# Altium integrated library Capacitors - Aluminum - Electrolytic SMT.IntLib: 1988 symbols (part 33 of 50)
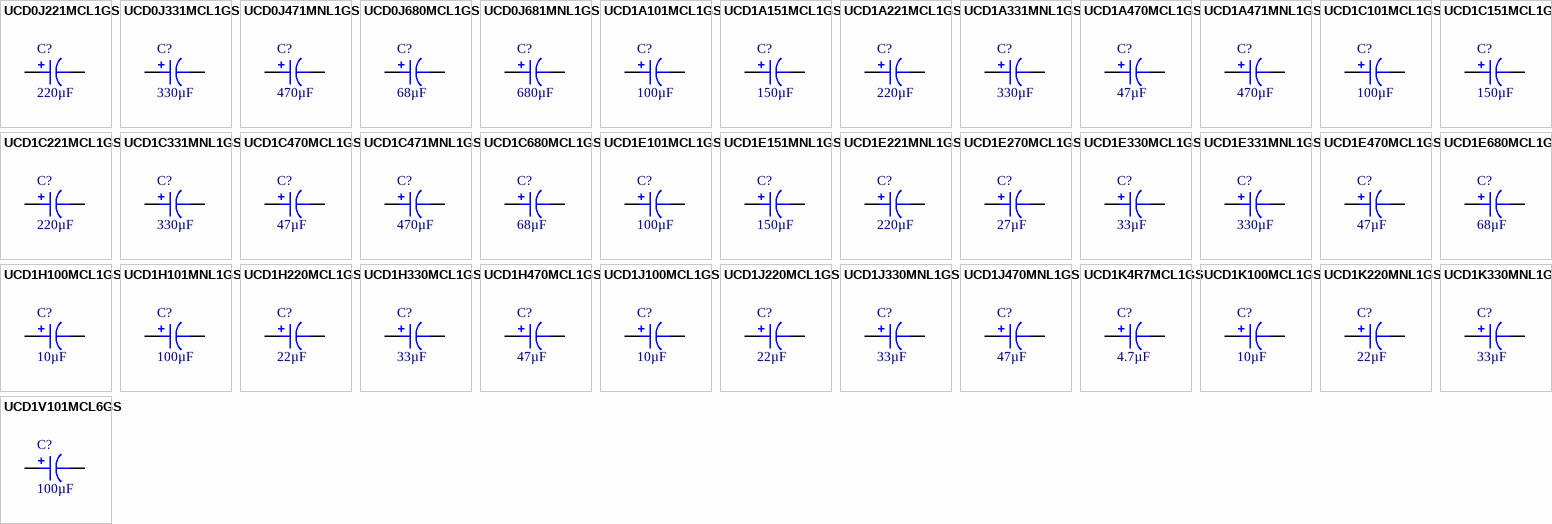
[diagram p80: symbols UCD0J221MCL1GS to UCD1V101MCL6GS]

## UCD1E680MCL1GS
designator C?, comment 68µF
CAP ALUM 68UF 20% 25V SMD; Part Number: UCD1E680MCL1GS; Manufacturer: Nichicon; Impedance: 360 mOhms; Lifetime @ Temp.: 2000 Hrs @ 105°C; Polarization: Polar; Ripple Current @ High Frequency: 240mA @ 100kHz; Ripple Current @ Low Frequency: 120mA @ 120Hz; Surface Mount Land Size: 0.260" L x 0.260" W (6.60mm x 6.60mm); Applications: Automotive; Capacitance: 68µF; ComponentLink1Description: Datasheet; ComponentLink1URL: http://nichicon-us.com/english/products/pdfs/e-ucd.pdf; ComponentLink2Description: DigiKey Link; ComponentLink2URL: http://digikey.com/product-detail/en/nichicon/UCD1E680MCL1GS/493-6387-1-ND/3438901; Device Package: Radial, Can - SMD; Height - Seated (Max): 0.240" (6.10mm); LastUpdated: 9/2/2020 1:25:27 AM; Lifecycle Status: Active; Minimum Order: 1; Mounting Type: Surface Mount; Operating Temperature: -55°C ~ 105°C; Package / Case: Radial, Can - SMD; Packaging: TapeAndReel; PartId: 8108; Part Status: Active; Price: 0.12; Ratings: AEC-Q200; Series: UCD; Size / Dimension: 0.248" Dia (6.30mm); Supplier 1: DigiKey; Supplier Part Number 1: 493-6387-1-ND; Tolerance: ±20%; Value: 68µF; Voltage - Rated: 25V
footprint CAP ALSMD 6.6MM H6.1MM
pins: 1, 2

## UCD1H100MCL1GS
designator C?, comment 10µF
CAP ALUM 10UF 20% 50V SMD; Part Number: UCD1H100MCL1GS; Manufacturer: Nichicon; Impedance: 860 mOhms; Lifetime @ Temp.: 2000 Hrs @ 105°C; Polarization: Polar; Ripple Current @ High Frequency: 170mA @ 100kHz; Ripple Current @ Low Frequency: 85mA @ 120Hz; Surface Mount Land Size: 0.260" L x 0.260" W (6.60mm x 6.60mm); Applications: Automotive; Capacitance: 10µF; ComponentLink1Description: Datasheet; ComponentLink1URL: http://nichicon-us.com/english/products/pdfs/e-ucd.pdf; ComponentLink2Description: DigiKey Link; ComponentLink2URL: http://digikey.com/product-detail/en/nichicon/UCD1H100MCL1GS/493-6177-1-ND/3438690; Device Package: Radial, Can - SMD; Height - Seated (Max): 0.240" (6.10mm); LastUpdated: 9/2/2020 1:25:27 AM; Lifecycle Status: Active; Minimum Order: 1; Mounting Type: Surface Mount; Operating Temperature: -55°C ~ 105°C; Package / Case: Radial, Can - SMD; Packaging: TapeAndReel; PartId: 8083; Part Status: Active; Price: 0.11; Ratings: AEC-Q200; Series: UCD; Size / Dimension: 0.248" Dia (6.30mm); Supplier 1: DigiKey; Supplier Part Number 1: 493-6177-1-ND; Tolerance: ±20%; Value: 10µF; Voltage - Rated: 50V
footprint CAP ALSMD 6.6MM H6.1MM
pins: 1, 2

## UCD1H101MNL1GS
designator C?, comment 100µF
CAP ALUM 100UF 20% 50V SMD; Part Number: UCD1H101MNL1GS; Manufacturer: Nichicon; Impedance: 320 mOhms; Lifetime @ Temp.: 5000 Hrs @ 105°C; Polarization: Polar; Ripple Current @ High Frequency: 350mA @ 100kHz; Ripple Current @ Low Frequency: 175mA @ 120Hz; Surface Mount Land Size: 0.327" L x 0.327" W (8.30mm x 8.30mm); Applications: Automotive; Capacitance: 100µF; ComponentLink1Description: Datasheet; ComponentLink1URL: http://nichicon-us.com/english/products/pdfs/e-ucd.pdf; ComponentLink2Description: DigiKey Link; ComponentLink2URL: http://digikey.com/product-detail/en/nichicon/UCD1H101MNL1GS/493-6388-1-ND/3438902; Device Package: Radial, Can - SMD; Height - Seated (Max): 0.413" (10.50mm); LastUpdated: 9/2/2020 1:25:16 AM; Lifecycle Status: Active; Minimum Order: 1; Mounting Type: Surface Mount; Operating Temperature: -55°C ~ 105°C; Package / Case: Radial, Can - SMD; Packaging: TapeAndReel; PartId: 7489; Part Status: Active; Price: 0.26; Ratings: AEC-Q200; Series: UCD; Size / Dimension: 0.315" Dia (8.00mm); Supplier 1: DigiKey; Supplier Part Number 1: 493-6388-1-ND; Tolerance: ±20%; Value: 100µF; Voltage - Rated: 50V
footprint CAP ALSMD 8.3MM H10.5MM
pins: 1, 2

## UCD1H220MCL1GS
designator C?, comment 22µF
CAP ALUM 22UF 20% 50V SMD; Part Number: UCD1H220MCL1GS; Manufacturer: Nichicon; Impedance: 860 mOhms; Lifetime @ Temp.: 5000 Hrs @ 105°C; Polarization: Polar; Ripple Current @ High Frequency: 170mA @ 100kHz; Ripple Current @ Low Frequency: 85mA @ 120Hz; Surface Mount Land Size: 0.260" L x 0.260" W (6.60mm x 6.60mm); Applications: Automotive; Capacitance: 22µF; ComponentLink1Description: Datasheet; ComponentLink1URL: http://nichicon-us.com/english/products/pdfs/e-ucd.pdf; ComponentLink2Description: DigiKey Link; ComponentLink2URL: http://digikey.com/product-detail/en/nichicon/UCD1H220MCL1GS/493-6180-1-ND/3438693; Device Package: Radial, Can - SMD; Height - Seated (Max): 0.240" (6.10mm); LastUpdated: 9/2/2020 1:25:26 AM; Lifecycle Status: Active; Minimum Order: 1; Mounting Type: Surface Mount; Operating Temperature: -55°C ~ 105°C; Package / Case: Radial, Can - SMD; Packaging: TapeAndReel; PartId: 8171; Part Status: Active; Price: 0.12; Ratings: AEC-Q200; Series: UCD; Size / Dimension: 0.248" Dia (6.30mm); Supplier 1: DigiKey; Supplier Part Number 1: 493-6180-1-ND; Tolerance: ±20%; Value: 22µF; Voltage - Rated: 50V
footprint CAP ALSMD 6.6MM H6.1MM
pins: 1, 2

## UCD1H330MCL1GS
designator C?, comment 33µF
CAP ALUM 33UF 20% 50V SMD; Part Number: UCD1H330MCL1GS; Manufacturer: Nichicon; Impedance: 660 mOhms; Lifetime @ Temp.: 2000 Hrs @ 105°C; Polarization: Polar; Ripple Current @ High Frequency: 195mA @ 100kHz; Ripple Current @ Low Frequency: 97.5mA @ 120Hz; Surface Mount Land Size: 0.260" L x 0.260" W (6.60mm x 6.60mm); Applications: Automotive; Capacitance: 33µF; ComponentLink1Description: Datasheet; ComponentLink1URL: http://nichicon-us.com/english/products/pdfs/e-ucd.pdf; ComponentLink2Description: DigiKey Link; ComponentLink2URL: http://digikey.com/product-detail/en/nichicon/UCD1H330MCL1GS/493-6181-1-ND/3438694; Device Package: Radial, Can - SMD; Height - Seated (Max): 0.315" (8.00mm); LastUpdated: 9/2/2020 1:25:38 AM; Lifecycle Status: Active; Minimum Order: 1; Mounting Type: Surface Mount; Operating Temperature: -55°C ~ 105°C; Package / Case: Radial, Can - SMD; Packaging: TapeAndReel; PartId: 8396; Part Status: Active; Price: 0.14; Ratings: AEC-Q200; Series: UCD; Size / Dimension: 0.248" Dia (6.30mm); Supplier 1: DigiKey; Supplier Part Number 1: 493-6181-1-ND; Tolerance: ±20%; Value: 33µF; Voltage - Rated: 50V
footprint CAP ALSMD 6.6MM H8.0MM
pins: 1, 2

## UCD1H470MCL1GS
designator C?, comment 47µF
CAP ALUM 47UF 20% 50V SMD; Part Number: UCD1H470MCL1GS; Manufacturer: Nichicon; Impedance: 630 mOhms; Lifetime @ Temp.: 2000 Hrs @ 105°C; Polarization: Polar; Ripple Current @ High Frequency: 195mA @ 100kHz; Ripple Current @ Low Frequency: 97.5mA @ 120Hz; Surface Mount Land Size: 0.260" L x 0.260" W (6.60mm x 6.60mm); Applications: Automotive; Capacitance: 47µF; ComponentLink1Description: Datasheet; ComponentLink1URL: http://nichicon-us.com/english/products/pdfs/e-ucd.pdf; ComponentLink2Description: DigiKey Link; ComponentLink2URL: http://digikey.com/product-detail/en/nichicon/UCD1H470MCL1GS/493-6183-1-ND/3438696; Device Package: Radial, Can - SMD; Height - Seated (Max): 0.315" (8.00mm); LastUpdated: 9/2/2020 1:25:38 AM; Lifecycle Status: Active; Minimum Order: 1; Mounting Type: Surface Mount; Operating Temperature: -55°C ~ 105°C; Package / Case: Radial, Can - SMD; Packaging: TapeAndReel; PartId: 8347; Part Status: Active; Price: 0.12; Ratings: AEC-Q200; Series: UCD; Size / Dimension: 0.248" Dia (6.30mm); Supplier 1: DigiKey; Supplier Part Number 1: 493-6183-1-ND; Tolerance: ±20%; Value: 47µF; Voltage - Rated: 50V
footprint CAP ALSMD 6.6MM H8.0MM
pins: 1, 2

## UCD1J100MCL1GS
designator C?, comment 10µF
CAP ALUM 10UF 20% 63V SMD; Part Number: UCD1J100MCL1GS; Manufacturer: Nichicon; Impedance: 1.5 Ohms; Lifetime @ Temp.: 2000 Hrs @ 105°C; Polarization: Polar; Ripple Current @ High Frequency: 80mA @ 100kHz; Ripple Current @ Low Frequency: 40mA @ 120Hz; Surface Mount Land Size: 0.260" L x 0.260" W (6.60mm x 6.60mm); Applications: Automotive; Capacitance: 10µF; ComponentLink1Description: Datasheet; ComponentLink1URL: http://nichicon-us.com/english/products/pdfs/e-ucd.pdf; ComponentLink2Description: DigiKey Link; ComponentLink2URL: http://digikey.com/product-detail/en/nichicon/UCD1J100MCL1GS/493-6395-1-ND/3438909; Device Package: Radial, Can - SMD; Height - Seated (Max): 0.240" (6.10mm); LastUpdated: 9/2/2020 1:25:26 AM; Lifecycle Status: Active; Minimum Order: 1; Mounting Type: Surface Mount; Operating Temperature: -55°C ~ 105°C; Package / Case: Radial, Can - SMD; Packaging: TapeAndReel; PartId: 8177; Part Status: Active; Price: 0.13; Ratings: AEC-Q200; Series: UCD; Size / Dimension: 0.248" Dia (6.30mm); Supplier 1: DigiKey; Supplier Part Number 1: 493-6395-1-ND; Tolerance: ±20%; Value: 10µF; Voltage - Rated: 63V
footprint CAP ALSMD 6.6MM H6.1MM
pins: 1, 2

## UCD1J220MCL1GS
designator C?, comment 22µF
CAP ALUM 22UF 20% 63V SMD; Part Number: UCD1J220MCL1GS; Manufacturer: Nichicon; Impedance: 1.2 Ohms; Lifetime @ Temp.: 2000 Hrs @ 105°C; Polarization: Polar; Ripple Current @ High Frequency: 120mA @ 100kHz; Ripple Current @ Low Frequency: 60mA @ 120Hz; Surface Mount Land Size: 0.260" L x 0.260" W (6.60mm x 6.60mm); Applications: Automotive; Capacitance: 22µF; ComponentLink1Description: Datasheet; ComponentLink1URL: http://nichicon-us.com/english/products/pdfs/e-ucd.pdf; ComponentLink2Description: DigiKey Link; ComponentLink2URL: http://digikey.com/product-detail/en/nichicon/UCD1J220MCL1GS/493-6397-1-ND/3438911; Device Package: Radial, Can - SMD; Height - Seated (Max): 0.315" (8.00mm); LastUpdated: 9/2/2020 1:25:37 AM; Lifecycle Status: Active; Minimum Order: 1; Mounting Type: Surface Mount; Operating Temperature: -55°C ~ 105°C; Package / Case: Radial, Can - SMD; Packaging: TapeAndReel; PartId: 8508; Part Status: Active; Price: 0.15; Ratings: AEC-Q200; Series: UCD; Size / Dimension: 0.248" Dia (6.30mm); Supplier 1: DigiKey; Supplier Part Number 1: 493-6397-1-ND; Tolerance: ±20%; Value: 22µF; Voltage - Rated: 63V
footprint CAP ALSMD 6.6MM H8.0MM
pins: 1, 2

## UCD1J330MNL1GS
designator C?, comment 33µF
CAP ALUM 33UF 20% 63V SMD; Part Number: UCD1J330MNL1GS; Manufacturer: Nichicon; Impedance: 650 mOhms; Lifetime @ Temp.: 2000 Hrs @ 105°C; Polarization: Polar; Ripple Current @ High Frequency: 250mA @ 100kHz; Ripple Current @ Low Frequency: 125mA @ 120Hz; Surface Mount Land Size: 0.327" L x 0.327" W (8.30mm x 8.30mm); Applications: Automotive; Capacitance: 33µF; ComponentLink1Description: Datasheet; ComponentLink1URL: http://nichicon-us.com/english/products/pdfs/e-ucd.pdf; ComponentLink2Description: DigiKey Link; ComponentLink2URL: http://digikey.com/product-detail/en/nichicon/UCD1J330MNL1GS/493-6400-1-ND/3438914; Device Package: Radial, Can - SMD; Height - Seated (Max): 0.413" (10.50mm); LastUpdated: 9/2/2020 1:25:14 AM; Lifecycle Status: Active; Minimum Order: 1; Mounting Type: Surface Mount; Operating Temperature: -55°C ~ 105°C; Package / Case: Radial, Can - SMD; Packaging: TapeAndReel; PartId: 7685; Part Status: Active; Price: 0.23; Ratings: AEC-Q200; Series: UCD; Size / Dimension: 0.315" Dia (8.00mm); Supplier 1: DigiKey; Supplier Part Number 1: 493-6400-1-ND; Tolerance: ±20%; Value: 33µF; Voltage - Rated: 63V
footprint CAP ALSMD 8.3MM H10.5MM
pins: 1, 2

## UCD1J470MNL1GS
designator C?, comment 47µF
CAP ALUM 47UF 20% 63V SMD; Part Number: UCD1J470MNL1GS; Manufacturer: Nichicon; Impedance: 650 mOhms; Lifetime @ Temp.: 2000 Hrs @ 105°C; Polarization: Polar; Ripple Current @ High Frequency: 250mA @ 100kHz; Ripple Current @ Low Frequency: 125mA @ 120Hz; Surface Mount Land Size: 0.327" L x 0.327" W (8.30mm x 8.30mm); Applications: Automotive; Capacitance: 47µF; ComponentLink1Description: Datasheet; ComponentLink1URL: http://nichicon-us.com/english/products/pdfs/e-ucd.pdf; ComponentLink2Description: DigiKey Link; ComponentLink2URL: http://digikey.com/product-detail/en/nichicon/UCD1J470MNL1GS/493-6401-1-ND/3438915; Device Package: Radial, Can - SMD; Height - Seated (Max): 0.413" (10.50mm); LastUpdated: 9/2/2020 1:25:15 AM; Lifecycle Status: Active; Minimum Order: 1; Mounting Type: Surface Mount; Operating Temperature: -55°C ~ 105°C; Package / Case: Radial, Can - SMD; Packaging: TapeAndReel; PartId: 7613; Part Status: Active; Price: 0.26; Ratings: AEC-Q200; Series: UCD; Size / Dimension: 0.315" Dia (8.00mm); Supplier 1: DigiKey; Supplier Part Number 1: 493-6401-1-ND; Tolerance: ±20%; Value: 47µF; Voltage - Rated: 63V
footprint CAP ALSMD 8.3MM H10.5MM
pins: 1, 2

## UCD1K4R7MCL1GS
designator C?, comment 4.7µF
CAP ALUM 4.7UF 20% 80V SMD; Part Number: UCD1K4R7MCL1GS; Manufacturer: Nichicon; Impedance: 3 Ohms; Lifetime @ Temp.: 2000 Hrs @ 105°C; Polarization: Polar; Ripple Current @ High Frequency: 40mA @ 100kHz; Ripple Current @ Low Frequency: 20mA @ 120Hz; Surface Mount Land Size: 0.260" L x 0.260" W (6.60mm x 6.60mm); Applications: Automotive; Capacitance: 4.7µF; ComponentLink1Description: Datasheet; ComponentLink1URL: http://nichicon-us.com/english/products/pdfs/e-ucd.pdf; ComponentLink2Description: DigiKey Link; ComponentLink2URL: http://digikey.com/product-detail/en/nichicon/UCD1K4R7MCL1GS/493-6416-1-ND/3438930; Device Package: Radial, Can - SMD; Height - Seated (Max): 0.240" (6.10mm); LastUpdated: 9/2/2020 1:25:27 AM; Lifecycle Status: Active; Minimum Order: 1; Mounting Type: Surface Mount; Operating Temperature: -55°C ~ 105°C; Package / Case: Radial, Can - SMD; Packaging: TapeAndReel; PartId: 8113; Part Status: Active; Price: 0.12; Ratings: AEC-Q200; Series: UCD; Size / Dimension: 0.248" Dia (6.30mm); Supplier 1: DigiKey; Supplier Part Number 1: 493-6416-1-ND; Tolerance: ±20%; Value: 4.7µF; Voltage - Rated: 80V
footprint CAP ALSMD 6.6MM H6.1MM
pins: 1, 2

## UCD1K100MCL1GS
designator C?, comment 10µF
CAP ALUM 10UF 20% 80V SMD; Part Number: UCD1K100MCL1GS; Manufacturer: Nichicon; Impedance: 2.4 Ohms; Lifetime @ Temp.: 2000 Hrs @ 105°C; Polarization: Polar; Ripple Current @ High Frequency: 60mA @ 100kHz; Ripple Current @ Low Frequency: 30mA @ 120Hz; Surface Mount Land Size: 0.260" L x 0.260" W (6.60mm x 6.60mm); Applications: Automotive; Capacitance: 10µF; ComponentLink1Description: Datasheet; ComponentLink1URL: http://nichicon-us.com/english/products/pdfs/e-ucd.pdf; ComponentLink2Description: DigiKey Link; ComponentLink2URL: http://digikey.com/product-detail/en/nichicon/UCD1K100MCL1GS/493-6406-1-ND/3438920; Device Package: Radial, Can - SMD; Height - Seated (Max): 0.315" (8.00mm); LastUpdated: 9/2/2020 1:25:37 AM; Lifecycle Status: Active; Minimum Order: 1; Mounting Type: Surface Mount; Operating Temperature: -55°C ~ 105°C; Package / Case: Radial, Can - SMD; Packaging: TapeAndReel; PartId: 8507; Part Status: Active; Price: 0.15; Ratings: AEC-Q200; Series: UCD; Size / Dimension: 0.248" Dia (6.30mm); Supplier 1: DigiKey; Supplier Part Number 1: 493-6406-1-ND; Tolerance: ±20%; Value: 10µF; Voltage - Rated: 80V
footprint CAP ALSMD 6.6MM H8.0MM
pins: 1, 2

## UCD1K220MNL1GS
designator C?, comment 22µF
CAP ALUM 22UF 20% 80V SMD; Part Number: UCD1K220MNL1GS; Manufacturer: Nichicon; Impedance: 1.3 Ohms; Lifetime @ Temp.: 2000 Hrs @ 105°C; Polarization: Polar; Ripple Current @ High Frequency: 130mA @ 100kHz; Ripple Current @ Low Frequency: 65mA @ 120Hz; Surface Mount Land Size: 0.327" L x 0.327" W (8.30mm x 8.30mm); Applications: Automotive; Capacitance: 22µF; ComponentLink1Description: Datasheet; ComponentLink1URL: http://nichicon-us.com/english/products/pdfs/e-ucd.pdf; ComponentLink2Description: DigiKey Link; ComponentLink2URL: http://digikey.com/product-detail/en/nichicon/UCD1K220MNL1GS/493-6410-1-ND/3438924; Device Package: Radial, Can - SMD; Height - Seated (Max): 0.413" (10.50mm); LastUpdated: 9/2/2020 1:25:14 AM; Lifecycle Status: Active; Minimum Order: 1; Mounting Type: Surface Mount; Operating Temperature: -55°C ~ 105°C; Package / Case: Radial, Can - SMD; Packaging: TapeAndReel; PartId: 7693; Part Status: Active; Price: 0.26; Ratings: AEC-Q200; Series: UCD; Size / Dimension: 0.315" Dia (8.00mm); Supplier 1: DigiKey; Supplier Part Number 1: 493-6410-1-ND; Tolerance: ±20%; Value: 22µF; Voltage - Rated: 80V
footprint CAP ALSMD 8.3MM H10.5MM
pins: 1, 2

## UCD1K330MNL1GS
designator C?, comment 33µF
CAP ALUM 33UF 20% 80V SMD; Part Number: UCD1K330MNL1GS; Manufacturer: Nichicon; Impedance: 1.3 Ohms; Lifetime @ Temp.: 2000 Hrs @ 105°C; Polarization: Polar; Ripple Current @ High Frequency: 130mA @ 100kHz; Ripple Current @ Low Frequency: 65mA @ 120Hz; Surface Mount Land Size: 0.327" L x 0.327" W (8.30mm x 8.30mm); Applications: Automotive; Capacitance: 33µF; ComponentLink1Description: Datasheet; ComponentLink1URL: http://nichicon-us.com/english/products/pdfs/e-ucd.pdf; ComponentLink2Description: DigiKey Link; ComponentLink2URL: http://digikey.com/product-detail/en/nichicon/UCD1K330MNL1GS/493-6411-1-ND/3438925; Device Package: Radial, Can - SMD; Height - Seated (Max): 0.413" (10.50mm); LastUpdated: 9/2/2020 1:25:13 AM; Lifecycle Status: Active; Minimum Order: 1; Mounting Type: Surface Mount; Operating Temperature: -55°C ~ 105°C; Package / Case: Radial, Can - SMD; Packaging: TapeAndReel; PartId: 7767; Part Status: Active; Price: 0.26; Ratings: AEC-Q200; Series: UCD; Size / Dimension: 0.315" Dia (8.00mm); Supplier 1: DigiKey; Supplier Part Number 1: 493-6411-1-ND; Tolerance: ±20%; Value: 33µF; Voltage - Rated: 80V
footprint CAP ALSMD 8.3MM H10.5MM
pins: 1, 2

## UCD1V101MCL6GS
designator C?, comment 100µF
CAP ALUM 100UF 20% 35V SMD; Part Number: UCD1V101MCL6GS; Manufacturer: Nichicon; Impedance: 320 mOhms; Lifetime @ Temp.: 2000 Hrs @ 105°C; Polarization: Polar; Ripple Current @ High Frequency: 290mA @ 100kHz; Ripple Current @ Low Frequency: 145mA @ 120Hz; Surface Mount Land Size: 0.260" L x 0.260" W (6.60mm x 6.60mm); Applications: Automotive; Capacitance: 100µF; ComponentLink1Description: Datasheet; ComponentLink1URL: http://nichicon-us.com/english/products/pdfs/e-ucd.pdf; ComponentLink2Description: DigiKey Link; ComponentLink2URL: http://digikey.com/product-detail/en/nichicon/UCD1V101MCL6GS/493-6420-1-ND/3438934; Device Package: Radial, Can - SMD; Height - Seated (Max): 0.315" (8.00mm); LastUpdated: 9/2/2020 1:25:38 AM; Lifecycle Status: Active; Minimum Order: 1; Mounting Type: Surface Mount; Operating Temperature: -55°C ~ 105°C; Package / Case: Radial, Can - SMD; Packaging: TapeAndReel; PartId: 8385; Part Status: Active; Price: 0.17; Ratings: AEC-Q200; Series: UCD; Size / Dimension: 0.248" Dia (6.30mm); Supplier 1: DigiKey; Supplier Part Number 1: 493-6420-1-ND; Tolerance: ±20%; Value: 100µF; Voltage - Rated: 35V
footprint CAP ALSMD 6.6MM H8.0MM
pins: 1, 2

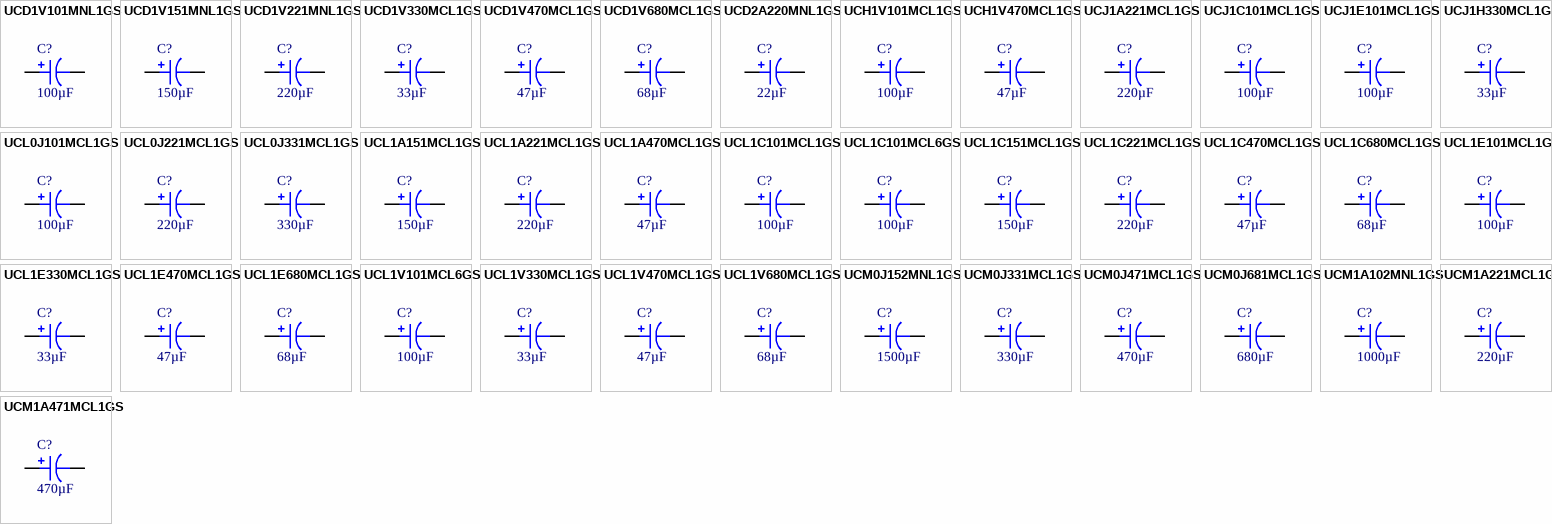
[diagram p32: symbols UCD1V101MNL1GS to UCM1A471MCL1GS]

## UCD1V101MNL1GS
designator C?, comment 100µF
CAP ALUM 100UF 20% 35V SMD; Part Number: UCD1V101MNL1GS; Manufacturer: Nichicon; Impedance: 160 mOhms; Lifetime @ Temp.: 5000 Hrs @ 105°C; Polarization: Polar; Ripple Current @ High Frequency: 600mA @ 100kHz; Ripple Current @ Low Frequency: 300mA @ 120Hz; Surface Mount Land Size: 0.327" L x 0.327" W (8.30mm x 8.30mm); Applications: Automotive; Capacitance: 100µF; ComponentLink1Description: Datasheet; ComponentLink1URL: http://nichicon-us.com/english/products/pdfs/e-ucd.pdf; ComponentLink2Description: DigiKey Link; ComponentLink2URL: http://digikey.com/product-detail/en/nichicon/UCD1V101MNL1GS/493-6186-1-ND/3438699; Device Package: Radial, Can - SMD; Height - Seated (Max): 0.413" (10.50mm); LastUpdated: 9/2/2020 1:25:16 AM; Lifecycle Status: Active; Minimum Order: 1; Mounting Type: Surface Mount; Operating Temperature: -55°C ~ 105°C; Package / Case: Radial, Can - SMD; Packaging: TapeAndReel; PartId: 7455; Part Status: Active; Price: 0.19; Ratings: AEC-Q200; Series: UCD; Size / Dimension: 0.315" Dia (8.00mm); Supplier 1: DigiKey; Supplier Part Number 1: 493-6186-1-ND; Tolerance: ±20%; Value: 100µF; Voltage - Rated: 35V
footprint CAP ALSMD 8.3MM H10.5MM
pins: 1, 2

## UCD1V151MNL1GS
designator C?, comment 150µF
CAP ALUM 150UF 20% 35V SMD; Part Number: UCD1V151MNL1GS; Manufacturer: Nichicon; Impedance: 160 mOhms; Lifetime @ Temp.: 5000 Hrs @ 105°C; Polarization: Polar; Ripple Current @ High Frequency: 600mA @ 100kHz; Ripple Current @ Low Frequency: 300mA @ 120Hz; Surface Mount Land Size: 0.327" L x 0.327" W (8.30mm x 8.30mm); Applications: Automotive; Capacitance: 150µF; ComponentLink1Description: Datasheet; ComponentLink1URL: http://nichicon-us.com/english/products/pdfs/e-ucd.pdf; ComponentLink2Description: DigiKey Link; ComponentLink2URL: http://digikey.com/product-detail/en/nichicon/UCD1V151MNL1GS/493-6421-1-ND/3438935; Device Package: Radial, Can - SMD; Height - Seated (Max): 0.413" (10.50mm); LastUpdated: 9/2/2020 1:25:15 AM; Lifecycle Status: Active; Minimum Order: 1; Mounting Type: Surface Mount; Operating Temperature: -55°C ~ 105°C; Package / Case: Radial, Can - SMD; Packaging: TapeAndReel; PartId: 7567; Part Status: Active; Price: 0.20; Ratings: AEC-Q200; Series: UCD; Size / Dimension: 0.315" Dia (8.00mm); Supplier 1: DigiKey; Supplier Part Number 1: 493-6421-1-ND; Tolerance: ±20%; Value: 150µF; Voltage - Rated: 35V
footprint CAP ALSMD 8.3MM H10.5MM
pins: 1, 2

## UCD1V221MNL1GS
designator C?, comment 220µF
CAP ALUM 220UF 20% 35V SMD; Part Number: UCD1V221MNL1GS; Manufacturer: Nichicon; Impedance: 160 mOhms; Lifetime @ Temp.: 2000 Hrs @ 105°C; Polarization: Polar; Ripple Current @ High Frequency: 600mA @ 100kHz; Ripple Current @ Low Frequency: 300mA @ 120Hz; Surface Mount Land Size: 0.327" L x 0.327" W (8.30mm x 8.30mm); Applications: Automotive; Capacitance: 220µF; ComponentLink1Description: Datasheet; ComponentLink1URL: http://nichicon-us.com/english/products/pdfs/e-ucd.pdf; ComponentLink2Description: DigiKey Link; ComponentLink2URL: http://digikey.com/product-detail/en/nichicon/UCD1V221MNL1GS/493-6423-1-ND/3438937; Device Package: Radial, Can - SMD; Height - Seated (Max): 0.413" (10.50mm); LastUpdated: 9/2/2020 1:25:15 AM; Lifecycle Status: Active; Minimum Order: 1; Mounting Type: Surface Mount; Operating Temperature: -55°C ~ 105°C; Package / Case: Radial, Can - SMD; Packaging: TapeAndReel; PartId: 7541; Part Status: Active; Price: 0.25; Ratings: AEC-Q200; Series: UCD; Size / Dimension: 0.315" Dia (8.00mm); Supplier 1: DigiKey; Supplier Part Number 1: 493-6423-1-ND; Tolerance: ±20%; Value: 220µF; Voltage - Rated: 35V
footprint CAP ALSMD 8.3MM H10.5MM
pins: 1, 2

## UCD1V330MCL1GS
designator C?, comment 33µF
CAP ALUM 33UF 20% 35V SMD; Part Number: UCD1V330MCL1GS; Manufacturer: Nichicon; Impedance: 360 mOhms; Lifetime @ Temp.: 2000 Hrs @ 105°C; Polarization: Polar; Ripple Current @ High Frequency: 240mA @ 100kHz; Ripple Current @ Low Frequency: 120mA @ 120Hz; Surface Mount Land Size: 0.260" L x 0.260" W (6.60mm x 6.60mm); Applications: Automotive; Capacitance: 33µF; ComponentLink1Description: Datasheet; ComponentLink1URL: http://nichicon-us.com/english/products/pdfs/e-ucd.pdf; ComponentLink2Description: DigiKey Link; ComponentLink2URL: http://digikey.com/product-detail/en/nichicon/UCD1V330MCL1GS/493-6424-1-ND/3438938; Device Package: Radial, Can - SMD; Height - Seated (Max): 0.240" (6.10mm); LastUpdated: 9/2/2020 1:25:27 AM; Lifecycle Status: Active; Minimum Order: 1; Mounting Type: Surface Mount; Operating Temperature: -55°C ~ 105°C; Package / Case: Radial, Can - SMD; Packaging: TapeAndReel; PartId: 8049; Part Status: Active; Price: 0.12; Ratings: AEC-Q200; Series: UCD; Size / Dimension: 0.248" Dia (6.30mm); Supplier 1: DigiKey; Supplier Part Number 1: 493-6424-1-ND; Tolerance: ±20%; Value: 33µF; Voltage - Rated: 35V
footprint CAP ALSMD 6.6MM H6.1MM
pins: 1, 2

## UCD1V470MCL1GS
designator C?, comment 47µF
CAP ALUM 47UF 20% 35V SMD; Part Number: UCD1V470MCL1GS; Manufacturer: Nichicon; Impedance: 360 mOhms; Lifetime @ Temp.: 2000 Hrs @ 105°C; Polarization: Polar; Ripple Current @ High Frequency: 240mA @ 100kHz; Ripple Current @ Low Frequency: 120mA @ 120Hz; Surface Mount Land Size: 0.260" L x 0.260" W (6.60mm x 6.60mm); Applications: Automotive; Capacitance: 47µF; ComponentLink1Description: Datasheet; ComponentLink1URL: http://nichicon-us.com/english/products/pdfs/e-ucd.pdf; ComponentLink2Description: DigiKey Link; ComponentLink2URL: http://digikey.com/product-detail/en/nichicon/UCD1V470MCL1GS/493-6426-1-ND/3438940; Device Package: Radial, Can - SMD; Height - Seated (Max): 0.240" (6.10mm); LastUpdated: 9/2/2020 1:25:27 AM; Lifecycle Status: Active; Minimum Order: 1; Mounting Type: Surface Mount; Operating Temperature: -55°C ~ 105°C; Package / Case: Radial, Can - SMD; Packaging: TapeAndReel; PartId: 8038; Part Status: Active; Price: 0.13; Ratings: AEC-Q200; Series: UCD; Size / Dimension: 0.248" Dia (6.30mm); Supplier 1: DigiKey; Supplier Part Number 1: 493-6426-1-ND; Tolerance: ±20%; Value: 47µF; Voltage - Rated: 35V
footprint CAP ALSMD 6.6MM H6.1MM
pins: 1, 2

## UCD1V680MCL1GS
designator C?, comment 68µF
CAP ALUM 68UF 20% 35V SMD; Part Number: UCD1V680MCL1GS; Manufacturer: Nichicon; Impedance: 320 mOhms; Lifetime @ Temp.: 2000 Hrs @ 105°C; Polarization: Polar; Ripple Current @ High Frequency: 290mA @ 100kHz; Ripple Current @ Low Frequency: 145mA @ 120Hz; Surface Mount Land Size: 0.260" L x 0.260" W (6.60mm x 6.60mm); Applications: Automotive; Capacitance: 68µF; ComponentLink1Description: Datasheet; ComponentLink1URL: http://nichicon-us.com/english/products/pdfs/e-ucd.pdf; ComponentLink2Description: DigiKey Link; ComponentLink2URL: http://digikey.com/product-detail/en/nichicon/UCD1V680MCL1GS/493-6429-1-ND/3438943; Device Package: Radial, Can - SMD; Height - Seated (Max): 0.315" (8.00mm); LastUpdated: 9/2/2020 1:25:38 AM; Lifecycle Status: Active; Minimum Order: 1; Mounting Type: Surface Mount; Operating Temperature: -55°C ~ 105°C; Package / Case: Radial, Can - SMD; Packaging: TapeAndReel; PartId: 8410; Part Status: Active; Price: 0.15; Ratings: AEC-Q200; Series: UCD; Size / Dimension: 0.248" Dia (6.30mm); Supplier 1: DigiKey; Supplier Part Number 1: 493-6429-1-ND; Tolerance: ±20%; Value: 68µF; Voltage - Rated: 35V
footprint CAP ALSMD 6.6MM H8.0MM
pins: 1, 2

## UCD2A220MNL1GS
designator C?, comment 22µF
CAP ALUM 22UF 20% 100V SMD; Part Number: UCD2A220MNL1GS; Manufacturer: Nichicon; Impedance: 1.3 Ohms; Lifetime @ Temp.: 2000 Hrs @ 105°C; Polarization: Polar; Ripple Current @ High Frequency: 130mA @ 100kHz; Ripple Current @ Low Frequency: 65mA @ 120Hz; Surface Mount Land Size: 0.327" L x 0.327" W (8.30mm x 8.30mm); Applications: Automotive; Capacitance: 22µF; ComponentLink1Description: Datasheet; ComponentLink1URL: http://nichicon-us.com/english/products/pdfs/e-ucd.pdf; ComponentLink2Description: DigiKey Link; ComponentLink2URL: http://digikey.com/product-detail/en/nichicon/UCD2A220MNL1GS/493-6433-1-ND/3438947; Device Package: Radial, Can - SMD; Height - Seated (Max): 0.413" (10.50mm); LastUpdated: 9/2/2020 1:25:15 AM; Lifecycle Status: Active; Minimum Order: 1; Mounting Type: Surface Mount; Operating Temperature: -55°C ~ 105°C; Package / Case: Radial, Can - SMD; Packaging: TapeAndReel; PartId: 7612; Part Status: Active; Price: 0.26; Ratings: AEC-Q200; Series: UCD; Size / Dimension: 0.315" Dia (8.00mm); Supplier 1: DigiKey; Supplier Part Number 1: 493-6433-1-ND; Tolerance: ±20%; Value: 22µF; Voltage - Rated: 100V
footprint CAP ALSMD 8.3MM H10.5MM
pins: 1, 2

## UCH1V101MCL1GS
designator C?, comment 100µF
CAP ALUM 100UF 20% 35V SMD; Part Number: UCH1V101MCL1GS; Manufacturer: Nichicon; ESR (Equivalent Series Resistance): 300mOhm @ 100kHz; Lifetime @ Temp.: 2000 Hrs @ 125°C; Polarization: Polar; Ripple Current @ High Frequency: 197mA @ 10kHz; Ripple Current @ Low Frequency: 98.5mA @ 120Hz; Surface Mount Land Size: 0.260" L x 0.260" W (6.60mm x 6.60mm); Applications: General Purpose; Capacitance: 100µF; ComponentLink1Description: Datasheet; ComponentLink1URL: http://nichicon-us.com/english/products/pdfs/e-uch.pdf; ComponentLink2Description: DigiKey Link; ComponentLink2URL: http://digikey.com/product-detail/en/nichicon/UCH1V101MCL1GS/493-14359-1-ND/5724346; Device Package: Radial, Can - SMD; Height - Seated (Max): 0.315" (8.00mm); LastUpdated: 9/2/2020 1:25:37 AM; Lifecycle Status: Active; Minimum Order: 1; Mounting Type: Surface Mount; Operating Temperature: -40°C ~ 125°C; Package / Case: Radial, Can - SMD; Packaging: TapeAndReel; PartId: 8501; Part Status: Active; Price: 0.25; Series: UCH; Size / Dimension: 0.248" Dia (6.30mm); Supplier 1: DigiKey; Supplier Part Number 1: 493-14359-1-ND; Tolerance: ±20%; Value: 100µF; Voltage - Rated: 35V
footprint CAP ALSMD 6.6MM H8.0MM
pins: 1, 2

## UCH1V470MCL1GS
designator C?, comment 47µF
CAP ALUM 47UF 20% 35V SMD; Part Number: UCH1V470MCL1GS; Manufacturer: Nichicon; ESR (Equivalent Series Resistance): 300mOhm @ 100kHz; Lifetime @ Temp.: 2000 Hrs @ 125°C; Polarization: Polar; Ripple Current @ High Frequency: 197mA @ 10kHz; Ripple Current @ Low Frequency: 98.5mA @ 120Hz; Surface Mount Land Size: 0.260" L x 0.260" W (6.60mm x 6.60mm); Applications: General Purpose; Capacitance: 47µF; ComponentLink1Description: Datasheet; ComponentLink1URL: http://nichicon-us.com/english/products/pdfs/e-uch.pdf; ComponentLink2Description: DigiKey Link; ComponentLink2URL: http://digikey.com/product-detail/en/nichicon/UCH1V470MCL1GS/493-14358-1-ND/5724345; Device Package: Radial, Can - SMD; Height - Seated (Max): 0.315" (8.00mm); LastUpdated: 9/2/2020 1:25:37 AM; Lifecycle Status: Active; Minimum Order: 1; Mounting Type: Surface Mount; Operating Temperature: -40°C ~ 125°C; Package / Case: Radial, Can - SMD; Packaging: TapeAndReel; PartId: 8483; Part Status: Active; Price: 0.49; Series: UCH; Size / Dimension: 0.248" Dia (6.30mm); Supplier 1: DigiKey; Supplier Part Number 1: 493-14358-1-ND; Tolerance: ±20%; Value: 47µF; Voltage - Rated: 35V
footprint CAP ALSMD 6.6MM H8.0MM
pins: 1, 2

## UCJ1A221MCL1GS
designator C?, comment 220µF
CAP ALUM 220UF 20% 10V SMD; Part Number: UCJ1A221MCL1GS; Manufacturer: Nichicon; ESR (Equivalent Series Resistance): 2Ohm; Lifetime @ Temp.: 2000 Hrs @ 125°C; Polarization: Polar; Ripple Current @ High Frequency: 250mA @ 100kHz; Ripple Current @ Low Frequency: 125mA @ 120Hz; Surface Mount Land Size: 0.327" L x 0.327" W (8.30mm x 8.30mm); Applications: General Purpose; Capacitance: 220µF; ComponentLink1Description: Datasheet; ComponentLink1URL: http://nichicon-us.com/english/products/pdfs/e-ucj.pdf; ComponentLink2Description: DigiKey Link; ComponentLink2URL: http://digikey.com/product-detail/en/nichicon/UCJ1A221MCL1GS/493-9388-1-ND/3962736; Device Package: Radial, Can - SMD; Height - Seated (Max): 0.413" (10.50mm); LastUpdated: 9/2/2020 1:25:15 AM; Lifecycle Status: Active; Minimum Order: 1; Mounting Type: Surface Mount; Operating Temperature: -40°C ~ 125°C; Package / Case: Radial, Can - SMD; Packaging: TapeAndReel; PartId: 7515; Part Status: Active; Price: 0.44; Series: UCJ; Size / Dimension: 0.315" Dia (8.00mm); Supplier 1: DigiKey; Supplier Part Number 1: 493-9388-1-ND; Tolerance: ±20%; Value: 220µF; Voltage - Rated: 10V
footprint CAP ALSMD 8.3MM H10.5MM
pins: 1, 2

## UCJ1C101MCL1GS
designator C?, comment 100µF
CAP ALUM 100UF 20% 16V SMD; Part Number: UCJ1C101MCL1GS; Manufacturer: Nichicon; ESR (Equivalent Series Resistance): 2Ohm; Lifetime @ Temp.: 2000 Hrs @ 125°C; Polarization: Polar; Ripple Current @ High Frequency: 250mA @ 100kHz; Ripple Current @ Low Frequency: 125mA @ 120Hz; Surface Mount Land Size: 0.327" L x 0.327" W (8.30mm x 8.30mm); Applications: General Purpose; Capacitance: 100µF; ComponentLink1Description: Datasheet; ComponentLink1URL: http://nichicon-us.com/english/products/pdfs/e-ucj.pdf; ComponentLink2Description: DigiKey Link; ComponentLink2URL: http://digikey.com/product-detail/en/nichicon/UCJ1C101MCL1GS/493-9390-1-ND/3962738; Device Package: Radial, Can - SMD; Height - Seated (Max): 0.413" (10.50mm); LastUpdated: 9/2/2020 1:25:14 AM; Lifecycle Status: Active; Minimum Order: 1; Mounting Type: Surface Mount; Operating Temperature: -40°C ~ 125°C; Package / Case: Radial, Can - SMD; Packaging: TapeAndReel; PartId: 7703; Part Status: Active; Price: 0.45; Series: UCJ; Size / Dimension: 0.315" Dia (8.00mm); Supplier 1: DigiKey; Supplier Part Number 1: 493-9390-1-ND; Tolerance: ±20%; Value: 100µF; Voltage - Rated: 16V
footprint CAP ALSMD 8.3MM H10.5MM
pins: 1, 2

## UCJ1E101MCL1GS
designator C?, comment 100µF
CAP ALUM 100UF 20% 25V SMD; Part Number: UCJ1E101MCL1GS; Manufacturer: Nichicon; ESR (Equivalent Series Resistance): 2Ohm; Lifetime @ Temp.: 2000 Hrs @ 125°C; Polarization: Polar; Ripple Current @ High Frequency: 250mA @ 100kHz; Ripple Current @ Low Frequency: 125mA @ 120Hz; Surface Mount Land Size: 0.327" L x 0.327" W (8.30mm x 8.30mm); Applications: General Purpose; Capacitance: 100µF; ComponentLink1Description: Datasheet; ComponentLink1URL: http://nichicon-us.com/english/products/pdfs/e-ucj.pdf; ComponentLink2Description: DigiKey Link; ComponentLink2URL: http://digikey.com/product-detail/en/nichicon/UCJ1E101MCL1GS/493-9393-1-ND/3962741; Device Package: Radial, Can - SMD; Height - Seated (Max): 0.413" (10.50mm); LastUpdated: 9/2/2020 1:25:13 AM; Lifecycle Status: Active; Minimum Order: 1; Mounting Type: Surface Mount; Operating Temperature: -40°C ~ 125°C; Package / Case: Radial, Can - SMD; Packaging: TapeAndReel; PartId: 7820; Part Status: Active; Price: 0.45; Series: UCJ; Size / Dimension: 0.315" Dia (8.00mm); Supplier 1: DigiKey; Supplier Part Number 1: 493-9393-1-ND; Tolerance: ±20%; Value: 100µF; Voltage - Rated: 25V
footprint CAP ALSMD 8.3MM H10.5MM
pins: 1, 2

## UCJ1H330MCL1GS
designator C?, comment 33µF
CAP ALUM 33UF 20% 50V SMD; Part Number: UCJ1H330MCL1GS; Manufacturer: Nichicon; ESR (Equivalent Series Resistance): 2Ohm; Lifetime @ Temp.: 2000 Hrs @ 125°C; Polarization: Polar; Ripple Current @ High Frequency: 200mA @ 100kHz; Ripple Current @ Low Frequency: 100mA @ 120Hz; Surface Mount Land Size: 0.327" L x 0.327" W (8.30mm x 8.30mm); Applications: General Purpose; Capacitance: 33µF; ComponentLink1Description: Datasheet; ComponentLink1URL: http://nichicon-us.com/english/products/pdfs/e-ucj.pdf; ComponentLink2Description: DigiKey Link; ComponentLink2URL: http://digikey.com/product-detail/en/nichicon/UCJ1H330MCL1GS/493-9400-1-ND/3768652; Device Package: Radial, Can - SMD; Height - Seated (Max): 0.413" (10.50mm); LastUpdated: 9/2/2020 1:25:13 AM; Lifecycle Status: Active; Minimum Order: 1; Mounting Type: Surface Mount; Operating Temperature: -40°C ~ 125°C; Package / Case: Radial, Can - SMD; Packaging: TapeAndReel; PartId: 7818; Part Status: Active; Price: 0.45; Series: UCJ; Size / Dimension: 0.315" Dia (8.00mm); Supplier 1: DigiKey; Supplier Part Number 1: 493-9400-1-ND; Tolerance: ±20%; Value: 33µF; Voltage - Rated: 50V
footprint CAP ALSMD 8.3MM H10.5MM
pins: 1, 2

## UCL0J101MCL1GS
designator C?, comment 100µF
CAP ALUM 100UF 20% 6.3V SMD; Part Number: UCL0J101MCL1GS; Manufacturer: Nichicon; Impedance: 260 mOhms; Lifetime @ Temp.: 2000 Hrs @ 105°C; Polarization: Polar; Ripple Current @ High Frequency: 300mA @ 100kHz; Ripple Current @ Low Frequency: 150mA @ 120Hz; Surface Mount Land Size: 0.260" L x 0.260" W (6.60mm x 6.60mm); Applications: General Purpose; Capacitance: 100µF; ComponentLink1Description: Datasheet; ComponentLink1URL: http://nichicon-us.com/english/products/pdfs/e-ucl.pdf; ComponentLink2Description: DigiKey Link; ComponentLink2URL: http://digikey.com/product-detail/en/nichicon/UCL0J101MCL1GS/493-3888-1-ND/2300315; Device Package: Radial, Can - SMD; Height - Seated (Max): 0.228" (5.80mm); LastUpdated: 9/2/2020 1:18:39 AM; Lifecycle Status: Active; Minimum Order: 1; Mounting Type: Surface Mount; Operating Temperature: -55°C ~ 105°C; Package / Case: Radial, Can - SMD; Packaging: TapeAndReel; PartId: 8962; Part Status: Active; Price: 0.15; Series: UCL; Size / Dimension: 0.248" Dia (6.30mm); Supplier 1: DigiKey; Supplier Part Number 1: 493-3888-1-ND; Tolerance: ±20%; Value: 100µF; Voltage - Rated: 6.3V
footprint CAP ALSMD 6.6MM H6.1MM
pins: 1, 2

## UCL0J221MCL1GS
designator C?, comment 220µF
CAP ALUM 220UF 20% 6.3V SMD; Part Number: UCL0J221MCL1GS; Manufacturer: Nichicon; Impedance: 260 mOhms; Lifetime @ Temp.: 2000 Hrs @ 105°C; Polarization: Polar; Ripple Current @ High Frequency: 300mA @ 100kHz; Ripple Current @ Low Frequency: 150mA @ 120Hz; Surface Mount Land Size: 0.260" L x 0.260" W (6.60mm x 6.60mm); Applications: General Purpose; Capacitance: 220µF; ComponentLink1Description: Datasheet; ComponentLink1URL: http://nichicon-us.com/english/products/pdfs/e-ucl.pdf; ComponentLink2Description: DigiKey Link; ComponentLink2URL: http://digikey.com/product-detail/en/nichicon/UCL0J221MCL1GS/493-3889-1-ND/2300316; Device Package: Radial, Can - SMD; Height - Seated (Max): 0.228" (5.80mm); LastUpdated: 9/2/2020 1:18:39 AM; Lifecycle Status: Active; Minimum Order: 1; Mounting Type: Surface Mount; Operating Temperature: -55°C ~ 105°C; Package / Case: Radial, Can - SMD; Packaging: TapeAndReel; PartId: 9001; Part Status: Active; Price: 0.15; Series: UCL; Size / Dimension: 0.248" Dia (6.30mm); Supplier 1: DigiKey; Supplier Part Number 1: 493-3889-1-ND; Tolerance: ±20%; Value: 220µF; Voltage - Rated: 6.3V
footprint CAP ALSMD 6.6MM H6.1MM
pins: 1, 2

## UCL0J331MCL1GS
designator C?, comment 330µF
CAP ALUM 330UF 20% 6.3V SMD; Part Number: UCL0J331MCL1GS; Manufacturer: Nichicon; Impedance: 160 mOhms; Lifetime @ Temp.: 2000 Hrs @ 105°C; Polarization: Polar; Ripple Current @ High Frequency: 600mA @ 100kHz; Ripple Current @ Low Frequency: 300mA @ 120Hz; Surface Mount Land Size: 0.260" L x 0.260" W (6.60mm x 6.60mm); Applications: General Purpose; Capacitance: 330µF; ComponentLink1Description: Datasheet; ComponentLink1URL: http://nichicon-us.com/english/products/pdfs/e-ucl.pdf; ComponentLink2Description: DigiKey Link; ComponentLink2URL: http://digikey.com/product-detail/en/nichicon/UCL0J331MCL1GS/493-3890-1-ND/2300317; Device Package: Radial, Can - SMD; Height - Seated (Max): 0.303" (7.70mm); LastUpdated: 9/2/2020 1:25:35 AM; Lifecycle Status: Active; Minimum Order: 1; Mounting Type: Surface Mount; Operating Temperature: -55°C ~ 105°C; Package / Case: Radial, Can - SMD; Packaging: TapeAndReel; PartId: 8249; Part Status: Active; Price: 0.19; Series: UCL; Size / Dimension: 0.248" Dia (6.30mm); Supplier 1: DigiKey; Supplier Part Number 1: 493-3890-1-ND; Tolerance: ±20%; Value: 330µF; Voltage - Rated: 6.3V
footprint CAP ALSMD 6.6MM H7.7MM
pins: 1, 2

## UCL1A151MCL1GS
designator C?, comment 150µF
CAP ALUM 150UF 20% 10V SMD; Part Number: UCL1A151MCL1GS; Manufacturer: Nichicon; Impedance: 260 mOhms; Lifetime @ Temp.: 2000 Hrs @ 105°C; Polarization: Polar; Ripple Current @ High Frequency: 300mA @ 100kHz; Ripple Current @ Low Frequency: 150mA @ 120Hz; Surface Mount Land Size: 0.260" L x 0.260" W (6.60mm x 6.60mm); Applications: General Purpose; Capacitance: 150µF; ComponentLink1Description: Datasheet; ComponentLink1URL: http://nichicon-us.com/english/products/pdfs/e-ucl.pdf; ComponentLink2Description: DigiKey Link; ComponentLink2URL: http://digikey.com/product-detail/en/nichicon/UCL1A151MCL1GS/493-3902-1-ND/2300329; Device Package: Radial, Can - SMD; Height - Seated (Max): 0.228" (5.80mm); LastUpdated: 9/2/2020 1:18:37 AM; Lifecycle Status: Active; Minimum Order: 1; Mounting Type: Surface Mount; Operating Temperature: -55°C ~ 105°C; Package / Case: Radial, Can - SMD; Packaging: TapeAndReel; PartId: 8881; Part Status: Active; Price: 0.15; Series: UCL; Size / Dimension: 0.248" Dia (6.30mm); Supplier 1: DigiKey; Supplier Part Number 1: 493-3902-1-ND; Tolerance: ±20%; Value: 150µF; Voltage - Rated: 10V
footprint CAP ALSMD 6.6MM H6.1MM
pins: 1, 2

## UCL1A221MCL1GS
designator C?, comment 220µF
CAP ALUM 220UF 20% 10V SMD; Part Number: UCL1A221MCL1GS; Manufacturer: Nichicon; Impedance: 160 mOhms; Lifetime @ Temp.: 2000 Hrs @ 105°C; Polarization: Polar; Ripple Current @ High Frequency: 600mA @ 100kHz; Ripple Current @ Low Frequency: 300mA @ 120Hz; Surface Mount Land Size: 0.260" L x 0.260" W (6.60mm x 6.60mm); Applications: General Purpose; Capacitance: 220µF; ComponentLink1Description: Datasheet; ComponentLink1URL: http://nichicon-us.com/english/products/pdfs/e-ucl.pdf; ComponentLink2Description: DigiKey Link; ComponentLink2URL: http://digikey.com/product-detail/en/nichicon/UCL1A221MCL1GS/493-3903-1-ND/2300330; Device Package: Radial, Can - SMD; Height - Seated (Max): 0.303" (7.70mm); LastUpdated: 9/2/2020 1:25:34 AM; Lifecycle Status: Active; Minimum Order: 1; Mounting Type: Surface Mount; Operating Temperature: -55°C ~ 105°C; Package / Case: Radial, Can - SMD; Packaging: TapeAndReel; PartId: 8250; Part Status: Active; Price: 0.19; Series: UCL; Size / Dimension: 0.248" Dia (6.30mm); Supplier 1: DigiKey; Supplier Part Number 1: 493-3903-1-ND; Tolerance: ±20%; Value: 220µF; Voltage - Rated: 10V
footprint CAP ALSMD 6.6MM H7.7MM
pins: 1, 2

## UCL1A470MCL1GS
designator C?, comment 47µF
CAP ALUM 47UF 20% 10V SMD; Part Number: UCL1A470MCL1GS; Manufacturer: Nichicon; Impedance: 260 mOhms; Lifetime @ Temp.: 2000 Hrs @ 105°C; Polarization: Polar; Ripple Current @ High Frequency: 300mA @ 100kHz; Ripple Current @ Low Frequency: 150mA @ 120Hz; Surface Mount Land Size: 0.260" L x 0.260" W (6.60mm x 6.60mm); Applications: General Purpose; Capacitance: 47µF; ComponentLink1Description: Datasheet; ComponentLink1URL: http://nichicon-us.com/english/products/pdfs/e-ucl.pdf; ComponentLink2Description: DigiKey Link; ComponentLink2URL: http://digikey.com/product-detail/en/nichicon/UCL1A470MCL1GS/493-3901-1-ND/2300328; Device Package: Radial, Can - SMD; Height - Seated (Max): 0.228" (5.80mm); LastUpdated: 9/2/2020 1:18:39 AM; Lifecycle Status: Active; Minimum Order: 1; Mounting Type: Surface Mount; Operating Temperature: -55°C ~ 105°C; Package / Case: Radial, Can - SMD; Packaging: TapeAndReel; PartId: 8955; Part Status: Active; Price: 0.14; Series: UCL; Size / Dimension: 0.248" Dia (6.30mm); Supplier 1: DigiKey; Supplier Part Number 1: 493-3901-1-ND; Tolerance: ±20%; Value: 47µF; Voltage - Rated: 10V
footprint CAP ALSMD 6.6MM H6.1MM
pins: 1, 2

## UCL1C101MCL1GS
designator C?, comment 100µF
CAP ALUM 100UF 20% 16V SMD; Part Number: UCL1C101MCL1GS; Manufacturer: Nichicon; Impedance: 260 mOhms; Lifetime @ Temp.: 2000 Hrs @ 105°C; Polarization: Polar; Ripple Current @ High Frequency: 300mA @ 100kHz; Ripple Current @ Low Frequency: 150mA @ 120Hz; Surface Mount Land Size: 0.260" L x 0.260" W (6.60mm x 6.60mm); Applications: General Purpose; Capacitance: 100µF; ComponentLink1Description: Datasheet; ComponentLink1URL: http://nichicon-us.com/english/products/pdfs/e-ucl.pdf; ComponentLink2Description: DigiKey Link; ComponentLink2URL: http://digikey.com/product-detail/en/nichicon/UCL1C101MCL1GS/493-3919-1-ND/2300346; Device Package: Radial, Can - SMD; Height - Seated (Max): 0.228" (5.80mm); LastUpdated: 9/2/2020 1:18:36 AM; Lifecycle Status: Active; Minimum Order: 1; Mounting Type: Surface Mount; Operating Temperature: -55°C ~ 105°C; Package / Case: Radial, Can - SMD; Packaging: TapeAndReel; PartId: 8819; Part Status: Active; Price: 0.15; Series: UCL; Size / Dimension: 0.248" Dia (6.30mm); Supplier 1: DigiKey; Supplier Part Number 1: 493-3919-1-ND; Tolerance: ±20%; Value: 100µF; Voltage - Rated: 16V
footprint CAP ALSMD 6.6MM H6.1MM
pins: 1, 2

## UCL1C101MCL6GS
designator C?, comment 100µF
CAP ALUM 100UF 20% 16V SMD; Part Number: UCL1C101MCL6GS; Manufacturer: Nichicon; Impedance: 160 mOhms; Lifetime @ Temp.: 2000 Hrs @ 105°C; Polarization: Polar; Ripple Current @ High Frequency: 600mA @ 100kHz; Ripple Current @ Low Frequency: 300mA @ 120Hz; Surface Mount Land Size: 0.260" L x 0.260" W (6.60mm x 6.60mm); Applications: General Purpose; Capacitance: 100µF; ComponentLink1Description: Datasheet; ComponentLink1URL: http://nichicon-us.com/english/products/pdfs/e-ucl.pdf; ComponentLink2Description: DigiKey Link; ComponentLink2URL: http://digikey.com/product-detail/en/nichicon/UCL1C101MCL6GS/493-3920-1-ND/2300347; Device Package: Radial, Can - SMD; Height - Seated (Max): 0.303" (7.70mm); LastUpdated: 9/2/2020 1:25:35 AM; Lifecycle Status: Active; Minimum Order: 1; Mounting Type: Surface Mount; Operating Temperature: -55°C ~ 105°C; Package / Case: Radial, Can - SMD; Packaging: TapeAndReel; PartId: 8223; Part Status: Active; Price: 0.17; Series: UCL; Size / Dimension: 0.248" Dia (6.30mm); Supplier 1: DigiKey; Supplier Part Number 1: 493-3920-1-ND; Tolerance: ±20%; Value: 100µF; Voltage - Rated: 16V
footprint CAP ALSMD 6.6MM H7.7MM
pins: 1, 2

## UCL1C151MCL1GS
designator C?, comment 150µF
CAP ALUM 150UF 20% 16V SMD; Part Number: UCL1C151MCL1GS; Manufacturer: Nichicon; Impedance: 160 mOhms; Lifetime @ Temp.: 2000 Hrs @ 105°C; Polarization: Polar; Ripple Current @ High Frequency: 600mA @ 100kHz; Ripple Current @ Low Frequency: 300mA @ 120Hz; Surface Mount Land Size: 0.260" L x 0.260" W (6.60mm x 6.60mm); Applications: General Purpose; Capacitance: 150µF; ComponentLink1Description: Datasheet; ComponentLink1URL: http://nichicon-us.com/english/products/pdfs/e-ucl.pdf; ComponentLink2Description: DigiKey Link; ComponentLink2URL: http://digikey.com/product-detail/en/nichicon/UCL1C151MCL1GS/493-3921-1-ND/2300348; Device Package: Radial, Can - SMD; Height - Seated (Max): 0.303" (7.70mm); LastUpdated: 9/2/2020 1:25:34 AM; Lifecycle Status: Active; Minimum Order: 1; Mounting Type: Surface Mount; Operating Temperature: -55°C ~ 105°C; Package / Case: Radial, Can - SMD; Packaging: TapeAndReel; PartId: 8251; Part Status: Active; Price: 0.19; Series: UCL; Size / Dimension: 0.248" Dia (6.30mm); Supplier 1: DigiKey; Supplier Part Number 1: 493-3921-1-ND; Tolerance: ±20%; Value: 150µF; Voltage - Rated: 16V
footprint CAP ALSMD 6.6MM H7.7MM
pins: 1, 2

## UCL1C221MCL1GS
designator C?, comment 220µF
CAP ALUM 220UF 20% 16V SMD; Part Number: UCL1C221MCL1GS; Manufacturer: Nichicon; Impedance: 160 mOhms; Lifetime @ Temp.: 2000 Hrs @ 105°C; Polarization: Polar; Ripple Current @ High Frequency: 600mA @ 100kHz; Ripple Current @ Low Frequency: 300mA @ 120Hz; Surface Mount Land Size: 0.260" L x 0.260" W (6.60mm x 6.60mm); Applications: General Purpose; Capacitance: 220µF; ComponentLink1Description: Datasheet; ComponentLink1URL: http://nichicon-us.com/english/products/pdfs/e-ucl.pdf; ComponentLink2Description: DigiKey Link; ComponentLink2URL: http://digikey.com/product-detail/en/nichicon/UCL1C221MCL1GS/493-3922-1-ND/2300349; Device Package: Radial, Can - SMD; Height - Seated (Max): 0.303" (7.70mm); LastUpdated: 9/2/2020 1:25:35 AM; Lifecycle Status: Active; Minimum Order: 1; Mounting Type: Surface Mount; Operating Temperature: -55°C ~ 105°C; Package / Case: Radial, Can - SMD; Packaging: TapeAndReel; PartId: 8230; Part Status: Active; Price: 0.19; Series: UCL; Size / Dimension: 0.248" Dia (6.30mm); Supplier 1: DigiKey; Supplier Part Number 1: 493-3922-1-ND; Tolerance: ±20%; Value: 220µF; Voltage - Rated: 16V
footprint CAP ALSMD 6.6MM H7.7MM
pins: 1, 2

## UCL1C470MCL1GS
designator C?, comment 47µF
CAP ALUM 47UF 20% 16V SMD; Part Number: UCL1C470MCL1GS; Manufacturer: Nichicon; Impedance: 260 mOhms; Lifetime @ Temp.: 2000 Hrs @ 105°C; Polarization: Polar; Ripple Current @ High Frequency: 300mA @ 100kHz; Ripple Current @ Low Frequency: 150mA @ 120Hz; Surface Mount Land Size: 0.260" L x 0.260" W (6.60mm x 6.60mm); Applications: General Purpose; Capacitance: 47µF; ComponentLink1Description: Datasheet; ComponentLink1URL: http://nichicon-us.com/english/products/pdfs/e-ucl.pdf; ComponentLink2Description: DigiKey Link; ComponentLink2URL: http://digikey.com/product-detail/en/nichicon/UCL1C470MCL1GS/493-3917-1-ND/2300344; Device Package: Radial, Can - SMD; Height - Seated (Max): 0.228" (5.80mm); LastUpdated: 9/2/2020 1:18:39 AM; Lifecycle Status: Active; Minimum Order: 1; Mounting Type: Surface Mount; Operating Temperature: -55°C ~ 105°C; Package / Case: Radial, Can - SMD; Packaging: TapeAndReel; PartId: 8961; Part Status: Active; Price: 0.15; Series: UCL; Size / Dimension: 0.248" Dia (6.30mm); Supplier 1: DigiKey; Supplier Part Number 1: 493-3917-1-ND; Tolerance: ±20%; Value: 47µF; Voltage - Rated: 16V
footprint CAP ALSMD 6.6MM H6.1MM
pins: 1, 2

## UCL1C680MCL1GS
designator C?, comment 68µF
CAP ALUM 68UF 20% 16V SMD; Part Number: UCL1C680MCL1GS; Manufacturer: Nichicon; Impedance: 260 mOhms; Lifetime @ Temp.: 2000 Hrs @ 105°C; Polarization: Polar; Ripple Current @ High Frequency: 300mA @ 100kHz; Ripple Current @ Low Frequency: 150mA @ 120Hz; Surface Mount Land Size: 0.260" L x 0.260" W (6.60mm x 6.60mm); Applications: General Purpose; Capacitance: 68µF; ComponentLink1Description: Datasheet; ComponentLink1URL: http://nichicon-us.com/english/products/pdfs/e-ucl.pdf; ComponentLink2Description: DigiKey Link; ComponentLink2URL: http://digikey.com/product-detail/en/nichicon/UCL1C680MCL1GS/493-3918-1-ND/2300345; Device Package: Radial, Can - SMD; Height - Seated (Max): 0.228" (5.80mm); LastUpdated: 9/2/2020 1:18:39 AM; Lifecycle Status: Active; Minimum Order: 1; Mounting Type: Surface Mount; Operating Temperature: -55°C ~ 105°C; Package / Case: Radial, Can - SMD; Packaging: TapeAndReel; PartId: 9000; Part Status: Active; Price: 0.15; Series: UCL; Size / Dimension: 0.248" Dia (6.30mm); Supplier 1: DigiKey; Supplier Part Number 1: 493-3918-1-ND; Tolerance: ±20%; Value: 68µF; Voltage - Rated: 16V
footprint CAP ALSMD 6.6MM H6.1MM
pins: 1, 2